# Altium schematic symbol library 691 252 700 0xx.SchLib: 2 symbols
Pins are listed as number, name and electrical type; pins without a type are passive.

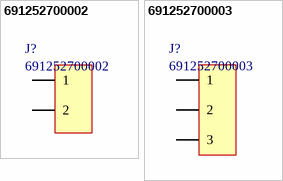
[diagram p0: symbols 691252700002 to 691252700003]

## 691252700002
designator J?
Horizontal Cable Entry with Rising Cage Clamp, Serie 2527 - 5mm; Manufacturer: Wurth Elektronik; ComponentLink1 Description: Manufacturer; ComponentLink2 Description: Datasheet; NoPins: 2; ComponentLink1 URL: http://www.we-online.com; ComponentLink2 URL: http://katalog.we-online.de/em/datasheet/6912527000xx.pdf; Created By: Baojun Chen; Created Date: 27.Aug.2015; PartNo: 691252700002
footprint 691252700002 (Serie 2527 - 5.00 mm _ 2 pins)
pins: 1, 2

## 691252700003
designator J?
Horizontal Cable Entry with Rising Cage Clamp, Serie 2527 - 5mm; Manufacturer: Wurth Elektronik; ComponentLink1 Description: Manufacturer; ComponentLink2 Description: Datasheet; NoPins: 3; ComponentLink1 URL: http://www.we-online.com; ComponentLink2 URL: http://katalog.we-online.de/em/datasheet/6912527000xx.pdf; Created By: Baojun Chen; Created Date: 27.Aug.2015; PartNo: 691252700003
footprint 691252700003 (Serie 2527 - 5.00 mm _ 3 pins)
pins: 1, 2, 3